# Altium schematic symbol library epic2.SCHLIB: 29 symbols
Pins are listed as number, name and electrical type; pins without a type are passive.

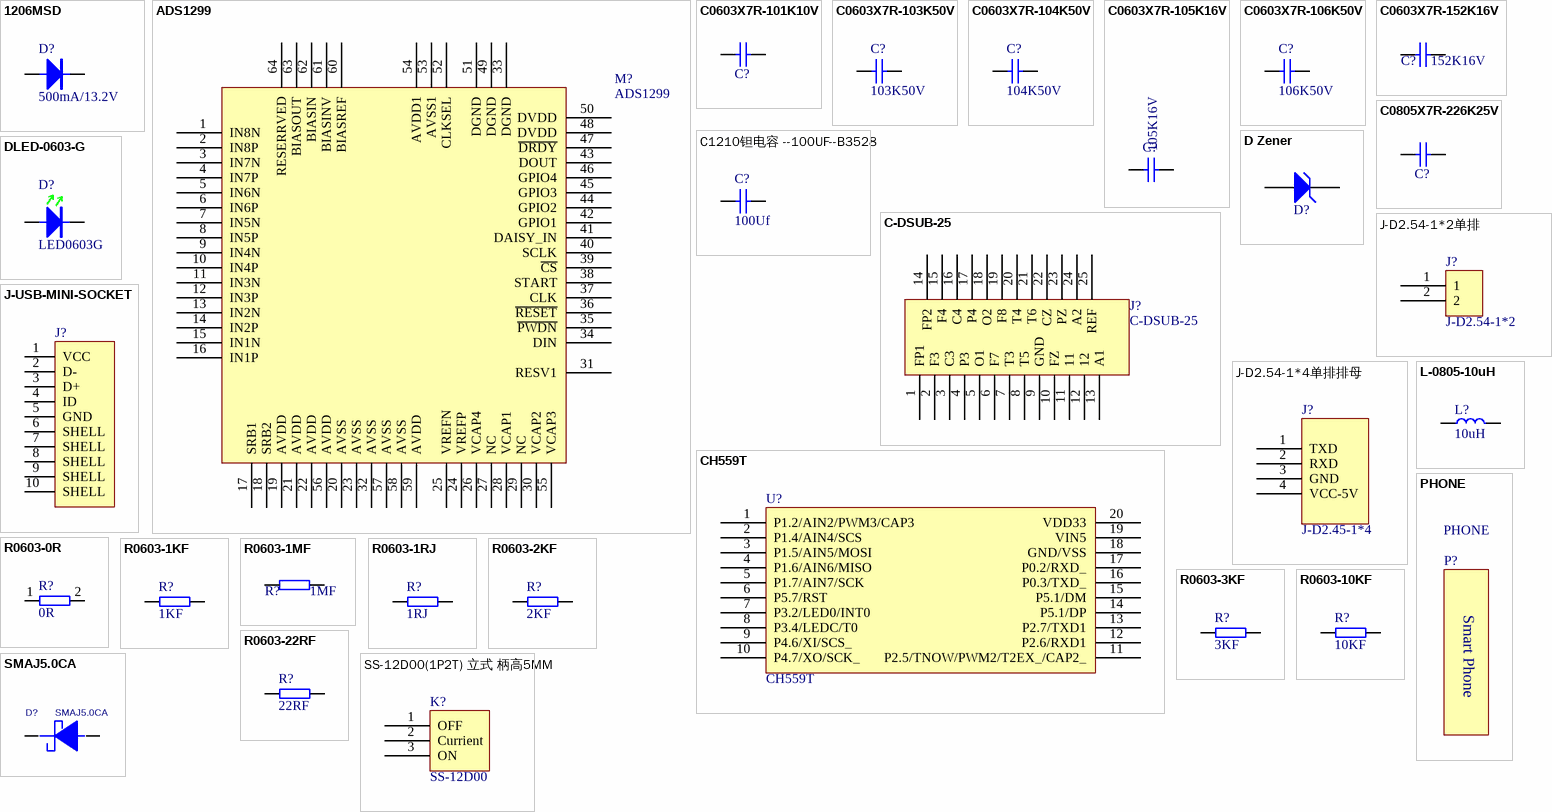
[diagram p0: symbols 1206MSD to SS-12D00(1P2T) 立式 柄高5MM]

## 1206MSD
designator D?, comment 500mA/13.2V
500mA/13.2V 自恢复保险丝
footprint D1206
pins: 1, 2

## ADS1299
designator M?
ADS1299-S-PQFP-64; ADS1299: S-PQFP-64
footprint ADS1299-TSQFP50P1200X1200X105-64N (TSQFP, 64-Leads, Body 10.00x10.00mm, Pitch 0.50mm, IPC Medium Density)
pins: 1 IN8N, 2 IN8P, 3 IN7N, 4 IN7P, 5 IN6N, 6 IN6P, 7 IN5N, 8 IN5P, 9 IN4N, 10 IN4P, 11 IN3N, 12 IN3P, 13 IN2N, 14 IN2P, 15 IN1N, 16 IN1P, 17 SRB1, 18 SRB2, 19 AVDD, 20 AVSS, 21 AVDD, 22 AVDD, 23 AVSS, 24 VREFP, 25 VREFN, 26 VCAP4, 27 NC, 28 VCAP1, 29 NC, 30 VCAP2, 31 RESV1, 32 AVSS, 33 DGND, 34 DIN, 35 ~{PWDN}, 36 ~{RESET}, 37 CLK, 38 START, 39 ~{CS}, 40 SCLK, 41 DAISY_IN, 42 GPIO1, 43 DOUT, 44 GPIO2, 45 GPIO3, 46 GPIO4, 47 ~{DRDY}, 48 DVDD, 49 DGND, 50 DVDD, 51 DGND, 52 CLKSEL, 53 AVSS1, 54 AVDD1, 55 VCAP3, 56 AVDD, 57 AVSS, 58 AVSS, 59 AVDD, 60 BIASREF, 61 BIASINV, 62 BIASIN, 63 BIASOUT, 64 RESERRVED

## C0603X7R-101K10V
designator C?, comment 101K10V  (value not drawn)
贴片电容-陶瓷; 规格型号: 100pF±10%_10V_X7R_C0603; 生产商: 风华 三星; 供应商: *; 备注: *
footprint C0603
pins: 1, 2

## C0603X7R-103K50V
designator C?, comment 103K50V
贴片电容-陶瓷; 规格型号: 10nF±10%_50V_X7R_C0603; 货品编码: 301075; 生产商: 风华 三星; 供应商: *; 备注: *
footprint C0603
pins: 1, 2

## C0603X7R-104K50V
designator C?, comment 104K50V
贴片电容-陶瓷; 规格型号: 100nF±10%_50V_X7R_C0603; 生产商: 风华 三星; 供应商: *; 备注: *
footprint C0603
pins: 1, 2

## C0603X7R-105K16V
designator C?, comment 105K16V
贴片电容-陶瓷; 规格型号: 1uF±10%_16V_X7R_C0603; 生产商: 风华 三星; 供应商: *; 备注: *
footprint C0603
pins: 1, 2

## C0603X7R-106K50V
designator C?, comment 106K50V
贴片电容-陶瓷; 规格型号: 10uF±10%_50V_X7R_C0603; 生产商: 风华 三星; 供应商: *; 备注: *
footprint C0603
pins: 1, 2

## C0603X7R-152K16V
designator C?, comment 152K16V
贴片电容-陶瓷
footprint C0603
pins: 1, 2

## C0805X7R-226K25V
designator C?, comment 226K25V  (value not drawn)
贴片电容-陶瓷; 规格型号: 22uF±10%_25V_X7R_C0805; 生产商: 风华 三星; 供应商: *; 备注: *
footprint C0805
pins: 1, 2

## C1210钽电容 --100UF--B3528
designator C?, comment 100Uf
C1210-100UF
footprint C1210
pins: 1, 2

## C-DSUB-25
designator J?
C-DSUB-0064
footprint C-DSUB-25
pins: 1 FP1, 2 F3, 3 C3, 4 P3, 5 O1, 6 F7, 7 T3, 8 T5, 9 GND, 10 FZ, 11, 12, 13 A1, 14 FP2, 15 F4, 16 C4, 17 P4, 18 O2, 19 F8, 20 T4, 21 T6, 22 CZ, 23 PZ, 24 A2, 25 REF

## CH559T
designator U?
usb通信
footprint TSSOP20 (SOP, 20-Leads, Body 7.20x5.30mm, Pitch 0.65mm, IPC Medium Density)
pins: 1 P1.2/AIN2/PWM3/CAP3, 2 P1.4/AIN4/SCS, 3 P1.5/AIN5/MOSI, 4 P1.6/AIN6/MISO, 5 P1.7/AIN7/SCK, 6 P5.7/RST, 7 P3.2/LED0/INT0, 8 P3.4/LEDC/T0, 9 P4.6/XI/SCS_, 10 P4.7/XO/SCK_, 11 P2.5/TNOW/PWM2/T2EX_/CAP2_, 12 P2.6/RXD1, 13 P2.7/TXD1, 14 P5.1/DP, 15 P5.1/DM, 16 P0.3/TXD_, 17 P0.2/RXD_, 18 GND/VSS, 19 VIN5, 20 VDD33

## D Zener
designator D?, comment ESDA_TR1/0603  (value not drawn)
Zener Diode; Published: *; LatestRevisionDate: *; LatestRevisionNote: *; PackageReference: *; Publisher: *
footprint HS_0603D
pins: 1 A, 2 K
2 alternate drawings of the same symbol

## DLED-0603-G
designator D?, comment LED0603G
贴片二极管-LED; 规格型号: 0603-GREEN; 货品编码: 无样品无编码; 生产商: *; 供应商: *; 备注: *
footprint D-LED0603G
pins: 1, 2

## J-D2.54-1*2单排
designator J?, comment J-D2.54-1*2
footprint D2.54-1*2P
pins: 1, 2

## J-D2.54-1*4单排排母
designator J?, comment J-D2.45-1*4
footprint D2.54-1*4P (Bluetooth)
pins: 1 TXD, 2 RXD, 3 GND, 4 VCC-5V

## J-USB-MINI-SOCKET
designator J?, comment USB-MINI-SOCKET  (value not drawn)
USB-A卧式插座; 供应商: *; 备注: *
footprint MICRO-USB - 5.9
pins: 1 VCC, 2 D-, 3 D+, 4 ID, 5 GND, 6 SHELL, 7 SHELL, 8 SHELL, 9 SHELL, 10 SHELL

## L-0805-10uH
designator L?, comment 10uH
贴片电感-层叠; 规格型号: L0805-10uH; 货品编码: 351002; 生产商: *; 供应商: *; 备注: *
footprint L0805
pins: 1, 2

## PHONE
designator P?
text: Smart Phone

## R0603-0R
designator R?, comment 0R
贴片电阻-通用; 生产商: 厚声 国巨; 规格型号: 0R_1/10W_±200ppm_R0603; 货品编码: 无样品无编码; 备注: *; 供应商: *
footprint R0603
pins: 1, 2

## R0603-1KF
designator R?, comment 1KF
贴片电阻-通用; 生产商: 厚声 国巨; 规格型号: 1K±1%_1/10W_±200ppm_R0603; 货品编码: 无样品无编码; 备注: *; 供应商: *
footprint R0603
pins: 1, 2

## R0603-1MF
designator R?, comment 1MF
贴片电阻-通用; value: 1MF 0603贴片电阻-通用; 厂商: 10K±1%_1/10W_±200ppm_R0603 国巨
footprint R0603
pins: 1, 2

## R0603-1RJ
designator R?, comment 1RJ
贴片电阻-通用; 生产商: 厚声 国巨; 规格型号: 1R±5%_1/10W_±200ppm_R0603; 货品编码: 无样品无编码; 备注: *; 供应商: *
footprint R0603
pins: 1, 2

## R0603-2KF
designator R?, comment 2KF
贴片电阻-通用; 生产商: 厚声 国巨; 规格型号: 2K±1%_1/10W_±200ppm_R0603; 备注: *; 供应商: *
footprint R0603
pins: 1, 2

## R0603-3KF
designator R?, comment 3KF
贴片电阻-通用; 生产商: 厚声 国巨; 规格型号: 3K±1%_1/10W_±200ppm_R0603; 货品编码: 无样品无编码; 备注: *; 供应商: *
footprint R0603
pins: 1, 2

## R0603-10KF
designator R?, comment 10KF
贴片电阻-通用; 生产商: 厚声 国巨; 规格型号: 10K±1%_1/10W_±200ppm_R0603; 备注: *; 供应商: *
footprint R0603
pins: 1, 2

## R0603-22RF
designator R?, comment 22RF
贴片电阻-通用; 生产商: 厚声 国巨; 规格型号: 22R±5%_1/10W_±200ppm_R0603; 货品编码: 无样品无编码; 备注: *; 供应商: *
footprint R0603
pins: 1, 2

## SMAJ5.0CA
designator D?
PCB DECAL: DO-214; Value: SMAJ5.0CA
footprint DO-214
pins: 1 +, 2 -

## SS-12D00(1P2T) 立式 柄高5MM
designator K?, comment SS-12D00
footprint SS-12D00 (SS-12D00(1P2T) 立式 柄高5MM)
pins: 1 OFF, 2 Currient, 3 ON